# Altium footprint library Maxim MAX8212.PcbLib: 1 footprints
Each footprint in its own frame and in the unit in brackets; x right, y up, seen from the top. Pads: shape width x height; smd on the part's side, far side on the other; paste and mask are expansions set on the pad; w line width, h text height; cw(c..) or ccw(c..) is an arc to the next point about the centre after c.
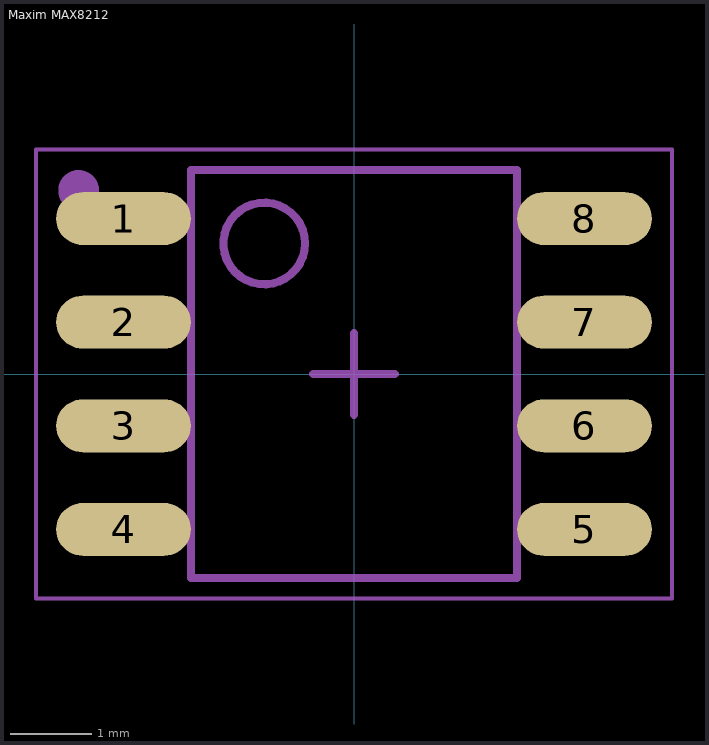
[diagram p0: the footprint, top view; thin cyan lines are the x and y axes]

## Maxim MAX8212 [mm] "MFG: MAX8212CSA+ Digikey:  MAX8212CSA+-ND"
height 1.75
pads (8):
  oval 1.65x0.65 smd: 1(-2.825,1.905) 2(-2.825,0.635) 3(-2.825,-0.635) 4(-2.825,-1.905) 5(2.825,-1.905) 6(2.825,-0.635) 7(2.825,0.635) 8(2.825,1.905)
Mechanical 6:
  text "'.Designator'" at -1.425,-0.275 h0.6
Mechanical 8:
  circle w0.25: c-3.375,2.25 r0.125
  lines w0.05: -3.9,-2.75 -3.9,2.75 3.9,2.75 3.9,-2.75 -3.9,-2.75
Mechanical 13:
  circle w0.1: c-1.1,1.6 r0.5
  lines w0.1: -2,-2.5 -2,2.5 2,2.5 2,-2.5 -2,-2.5
Mechanical 15:
  lines w0.05: -3.9,-2.75 -3.9,2.75 3.9,2.75 3.9,-2.75 -3.9,-2.75
  lines w0.1: -0.5,0 0.5,0 ; 0,-0.5 0,0.5
3D body "Maxim MAX8211.step": height 1.75, standoff 0, extent -3,-2.5 3,2.5